# EAGLE library part CIRCUITBRAINS_DELUXE (library Dal_V2)
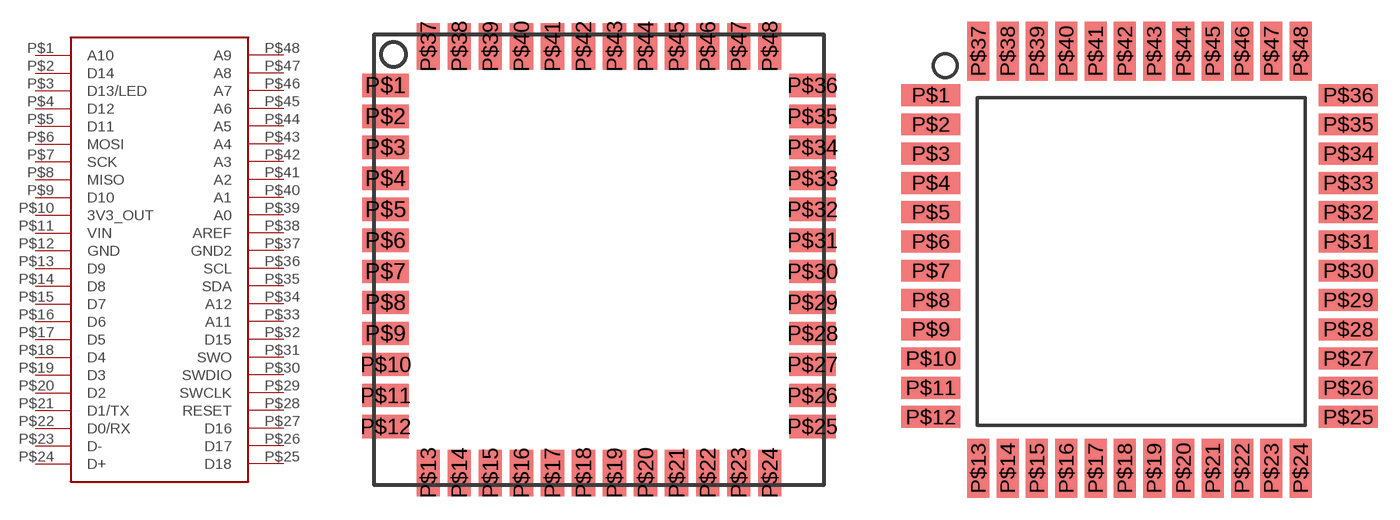
[diagram p17: symbol with the pads of DELUXE_48SOM_29MMX29MM; footprints DELUXE_48SOM_29MMX29MM, DELUXE_48SOM_29MMX29MM_HANDSOLDER]

Designator prefix M

## CIRCUITBRAINS_DELUXE  [DELUXE_48SOM_29MMX29MM]
P$1  A10
P$2  D14
P$3  D13/LED
P$4  D12
P$5  D11
P$6  MOSI
P$7  SCK
P$8  MISO
P$9  D10
P$10  3V3_OUT  pwr
P$11  VIN  pwr
P$12  GND  pwr
P$13  D9
P$14  D8
P$15  D7
P$16  D6
P$17  D5
P$18  D4
P$19  D3
P$20  D2
P$21  D1/TX
P$22  D0/RX
P$23  D-
P$24  D+
P$25  D18
P$26  D17
P$27  D16
P$28  RESET
P$29  SWCLK
P$30  SWDIO
P$31  SWO
P$32  D15
P$33  A11
P$34  A12
P$35  SDA
P$36  SCL
P$37  GND2  pwr
P$38  AREF  pwr
P$39  A0
P$40  A1
P$41  A2
P$42  A3
P$43  A4
P$44  A5
P$45  A6
P$46  A7
P$47  A8
P$48  A9

## CIRCUITBRAINS_DELUXEHANDSOLDER  [DELUXE_48SOM_29MMX29MM_HANDSOLDER]
Pads as for DELUXE_48SOM_29MMX29MM

## Footprint DELUXE_48SOM_29MMX29MM (pad centres in mm)
smd 3 x 1.5: P$1 0.75,-3.25; P$2 0.75,-5.25; P$3 0.75,-7.25; P$4 0.75,-9.25; P$5 0.75,-11.25; P$6 0.75,-13.25; P$7 0.75,-15.25; P$8 0.75,-17.25; P$9 0.75,-19.25; P$10 0.75,-21.25; P$11 0.75,-23.25; P$12 0.75,-25.25; P$25 28.25,-25.25; P$26 28.25,-23.25; P$27 28.25,-21.25; P$28 28.25,-19.25; P$29 28.25,-17.25; P$30 28.25,-15.25; P$31 28.25,-13.25; P$32 28.25,-11.25; P$33 28.25,-9.25; P$34 28.25,-7.25; P$35 28.25,-5.25; P$36 28.25,-3.25
smd 1.5 x 3: P$13 3.5,-28.25; P$14 5.5,-28.25; P$15 7.5,-28.25; P$16 9.5,-28.25; P$17 11.5,-28.25; P$18 13.5,-28.25; P$19 15.5,-28.25; P$20 17.5,-28.25; P$21 19.5,-28.25; P$22 21.5,-28.25; P$23 23.5,-28.25; P$24 25.5,-28.25; P$37 3.5,-0.75; P$38 5.5,-0.75; P$39 7.5,-0.75; P$40 9.5,-0.75; P$41 11.5,-0.75; P$42 13.5,-0.75; P$43 15.5,-0.75; P$44 17.5,-0.75; P$45 19.5,-0.75; P$46 21.5,-0.75; P$47 23.5,-0.75; P$48 25.5,-0.75

## Footprint DELUXE_48SOM_29MMX29MM_HANDSOLDER (pad centres in mm)
smd 4 x 1.5: P$1 0.25,-3.25; P$2 0.25,-5.25; P$3 0.25,-7.25; P$4 0.25,-9.25; P$5 0.25,-11.25; P$6 0.25,-13.25; P$7 0.25,-15.25; P$8 0.25,-17.25; P$9 0.25,-19.25; P$10 0.25,-21.25; P$11 0.25,-23.25; P$12 0.25,-25.25; P$25 28.75,-25.25; P$26 28.75,-23.25; P$27 28.75,-21.25; P$28 28.75,-19.25; P$29 28.75,-17.25; P$30 28.75,-15.25; P$31 28.75,-13.25; P$32 28.75,-11.25; P$33 28.75,-9.25; P$34 28.75,-7.25; P$35 28.75,-5.25; P$36 28.75,-3.25
smd 1.5 x 4: P$13 3.5,-28.75; P$14 5.5,-28.75; P$15 7.5,-28.75; P$16 9.5,-28.75; P$17 11.5,-28.75; P$18 13.5,-28.75; P$19 15.5,-28.75; P$20 17.5,-28.75; P$21 19.5,-28.75; P$22 21.5,-28.75; P$23 23.5,-28.75; P$24 25.5,-28.75; P$37 3.5,-0.25; P$38 5.5,-0.25; P$39 7.5,-0.25; P$40 9.5,-0.25; P$41 11.5,-0.25; P$42 13.5,-0.25; P$43 15.5,-0.25; P$44 17.5,-0.25; P$45 19.5,-0.25; P$46 21.5,-0.25; P$47 23.5,-0.25; P$48 25.5,-0.25